# Altium schematic symbol library PCB_Project1.SCHLIB: 15 symbols
Pins are listed as number, name and electrical type; pins without a type are passive.

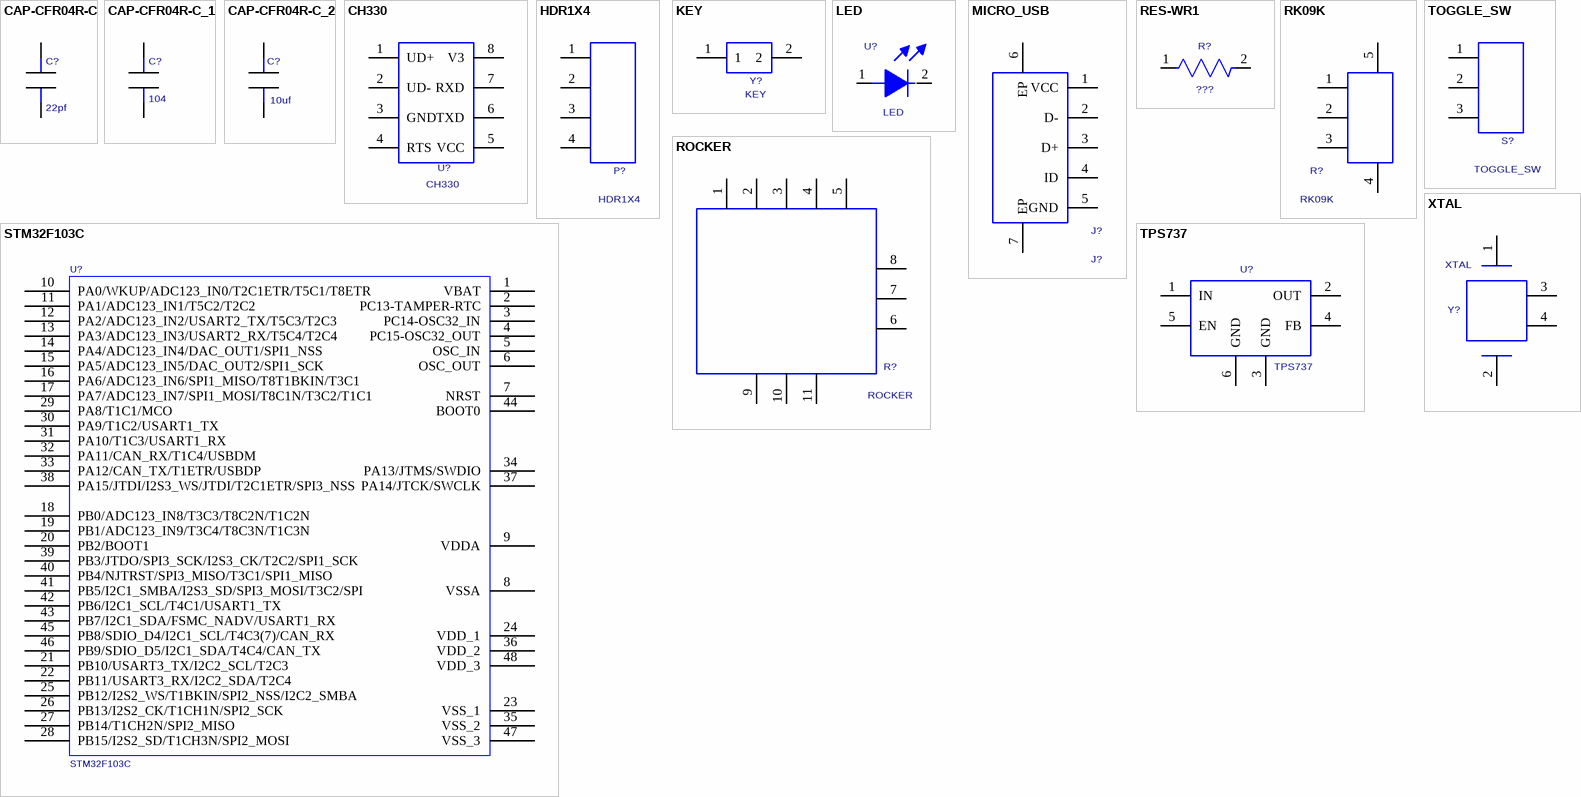
[diagram p0: symbols CAP-CFR04R-C to XTAL]

## CAP-CFR04R-C
designator C?  value 22pf  (hidden comment: CAP-CFR04R-C)
RADIAL FILM CAPACITOR, MIL-SPEC SIZE CFR04R SIZE 'C'; Manufacturer #1: KEMET; Part Number: TBD; Voltage Rating: ???; Sim.Analog.Prefix: C; Sim.Analog.Order: Model$; PCB DECAL: 0603C; Tolerance: ???
footprint 0603C
pins: 1, 2

## CAP-CFR04R-C_1
designator C?, comment value 104  (hidden comment: CAP-CFR04R-C)
RADIAL FILM CAPACITOR, MIL-SPEC SIZE CFR04R SIZE 'C'; Manufacturer #1: KEMET; Part Number: TBD; Voltage Rating: ???; Sim.Analog.Prefix: C; Sim.Analog.Order: Model$; PCB DECAL: 0805C; Tolerance: ???
footprint 0805C
pins: 1, 2

## CAP-CFR04R-C_2
designator C?, comment value 10uf  (hidden comment: CAP-CFR04R-C)
RADIAL FILM CAPACITOR, MIL-SPEC SIZE CFR04R SIZE 'C'; Manufacturer #1: KEMET; Part Number: TBD; Voltage Rating: ???; Sim.Analog.Prefix: C; Sim.Analog.Order: Model$; PCB DECAL: 1206C; Tolerance: ???
footprint 1206C
pins: 1, 2

## CH330
designator U?
PCB DECAL: SOP-8
footprint SOP_8
pins: 1 UD+, 2 UD-, 3 GND, 4 RTS, 5 VCC, 6 TXD, 7 RXD, 8 V3

## HDR1X4
designator P?
PCB DECAL: HDR1X4
footprint HDR1X4
pins: 1, 2, 3, 4

## KEY
designator Y?
PCB DECAL: KEY_3_6_2.5
footprint KEY_3_6_2.5
pins: 1, 2

## LED
designator U?, comment Comment_1: LED  (hidden comment: DS0)
PCB DECAL: 0805D; Designator: LED
footprint 0805D
pins: 1, 2

## MICRO_USB
designator J?, comment J?
PCB DECAL: MICRO-USB-SMD_5PBOARD5.9
footprint MICRO_USB
pins: 1 VCC, 2 D-, 3 D+, 4 ID, 5 GND, 6 EP, 7 EP

## RES-WR1
designator R?  value ???  (hidden comment: RES-WR1)
WIRE WOUND RESISTOR 3.4 X 7.05 MM; Manufacturer #1: IPC SM-782 STD.; Sim.Analog.Order: Model$; Sim.Analog.Prefix: R; PCB DECAL: 0603R
footprint 0603R
pins: 1, 2

## RK09K
designator R?
PCB DECAL: RK09K_RES
footprint RK09K_RES
pins: 1, 2, 3, 4, 5

## ROCKER
designator R?
PCB DECAL: ROCKER
footprint ROCKER
pins: 1, 2, 3, 4, 5, 6, 7, 8, 9, 10, 11

## STM32F103C
designator U?
STM32单片机48引脚; PCB DECAL: LQFP-48_M; Comment_1: STM32F103C
footprint LQFP-48_M
pins: 1 VBAT, 2 PC13-TAMPER-RTC, 3 PC14-OSC32_IN, 4 PC15-OSC32_OUT, 5 OSC_IN, 6 OSC_OUT, 7 NRST, 8 VSSA, 9 VDDA, 10 PA0/WKUP/ADC123_IN0/T2C1ETR/T5C1/T8ETR, 11 PA1/ADC123_IN1/T5C2/T2C2, 12 PA2/ADC123_IN2/USART2_TX/T5C3/T2C3, 13 PA3/ADC123_IN3/USART2_RX/T5C4/T2C4, 14 PA4/ADC123_IN4/DAC_OUT1/SPI1_NSS, 15 PA5/ADC123_IN5/DAC_OUT2/SPI1_SCK, 16 PA6/ADC123_IN6/SPI1_MISO/T8T1BKIN/T3C1, 17 PA7/ADC123_IN7/SPI1_MOSI/T8C1N/T3C2/T1C1, 18 PB0/ADC123_IN8/T3C3/T8C2N/T1C2N, 19 PB1/ADC123_IN9/T3C4/T8C3N/T1C3N, 20 PB2/BOOT1, 21 PB10/USART3_TX/I2C2_SCL/T2C3, 22 PB11/USART3_RX/I2C2_SDA/T2C4, 23 VSS_1, 24 VDD_1, 25 PB12/I2S2_WS/T1BKIN/SPI2_NSS/I2C2_SMBA, 26 PB13/I2S2_CK/T1CH1N/SPI2_SCK, 27 PB14/T1CH2N/SPI2_MISO, 28 PB15/I2S2_SD/T1CH3N/SPI2_MOSI, 29 PA8/T1C1/MCO, 30 PA9/T1C2/USART1_TX, 31 PA10/T1C3/USART1_RX, 32 PA11/CAN_RX/T1C4/USBDM, 33 PA12/CAN_TX/T1ETR/USBDP, 34 PA13/JTMS/SWDIO, 35 VSS_2, 36 VDD_2, 37 PA14/JTCK/SWCLK, 38 PA15/JTDI/I2S3_WS/JTDI/T2C1ETR/SPI3_NSS, 39 PB3/JTDO/SPI3_SCK/I2S3_CK/T2C2/SPI1_SCK, 40 PB4/NJTRST/SPI3_MISO/T3C1/SPI1_MISO, 41 PB5/I2C1_SMBA/I2S3_SD/SPI3_MOSI/T3C2/SPI, 42 PB6/I2C1_SCL/T4C1/USART1_TX, 43 PB7/I2C1_SDA/FSMC_NADV/USART1_RX, 44 BOOT0, 45 PB8/SDIO_D4/I2C1_SCL/T4C3(7)/CAN_RX, 46 PB9/SDIO_D5/I2C1_SDA/T4C4/CAN_TX, 47 VSS_3, 48 VDD_3

## TOGGLE_SW
designator S?
PCB DECAL: TOGGLE_SWITCH
footprint TOGGLE_SWITCH
pins: 1, 2, 3

## TPS737
designator U?
PCB DECAL: SOT-223-6_L6.5-W3.5-P1.27-BL
footprint SOT-223-6_L6.5-W3.5-P1.27-BL
pins: 1 IN, 2 OUT, 3 GND, 4 FB, 5 EN, 6 GND

## XTAL
designator Y?
PCB DECAL: XTAL
footprint TTAL2
pins: 1, 2, 3, 4